# Altium footprint library LD59030DTPU33R.PcbLib: 1 footprints
Each footprint in its own frame and in the unit in brackets; x right, y up, seen from the top. Pads: shape width x height; smd on the part's side, far side on the other; paste and mask are expansions set on the pad; w line width, h text height; cw(c..) or ccw(c..) is an arc to the next point about the centre after c.
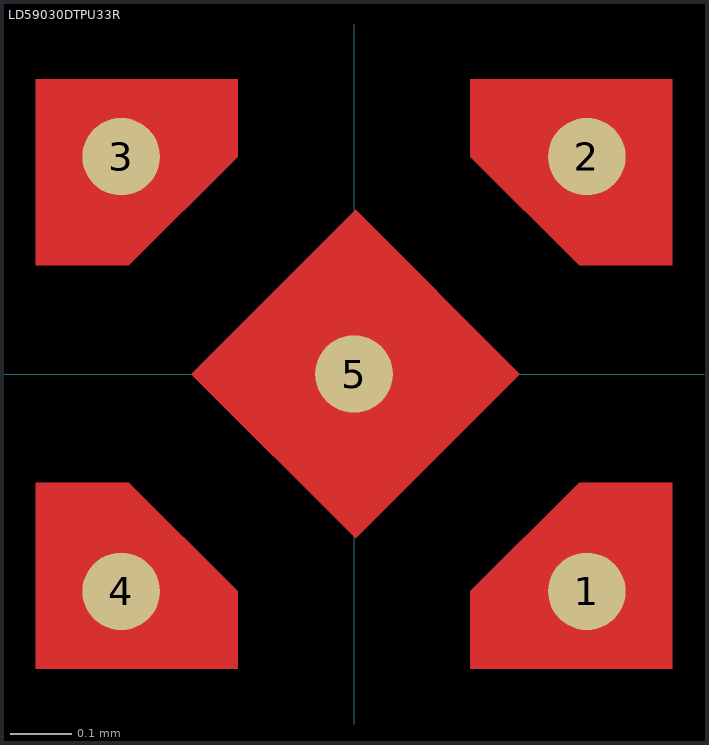
[diagram p0: the footprint, top view; thin cyan lines are the x and y axes]

## LD59030DTPU33R [mil] "LD59030DTPU33R 3.3V Regulator"
pads (5):
  round 5 smd: 1(15,-14) 2(15,14) 3(-15,14) 4(-15,-14) 5(0,0)
Top Layer:
  region: 0.11,-10.61 10.71,0 0.11,10.61 -10.5,0
  region: -14.5,-7 -7.5,-14 -7.5,-19 -20.5,-19 -20.5,-7
  region: 14.5,-7 7.5,-14 7.5,-19 20.5,-19 20.5,-7
  region: -14.5,7 -7.5,14 -7.5,19 -20.5,19 -20.5,7
  region: 14.5,7 7.5,14 7.5,19 20.5,19 20.5,7
3D body: height 16.54, standoff 12.6, extent 8.54,-11.97 12.47,-8.03
3D body: height 14.57, standoff 0, extent -19.5,-20 19.5,20